# EAGLE library part MCP2515 (library CAN)
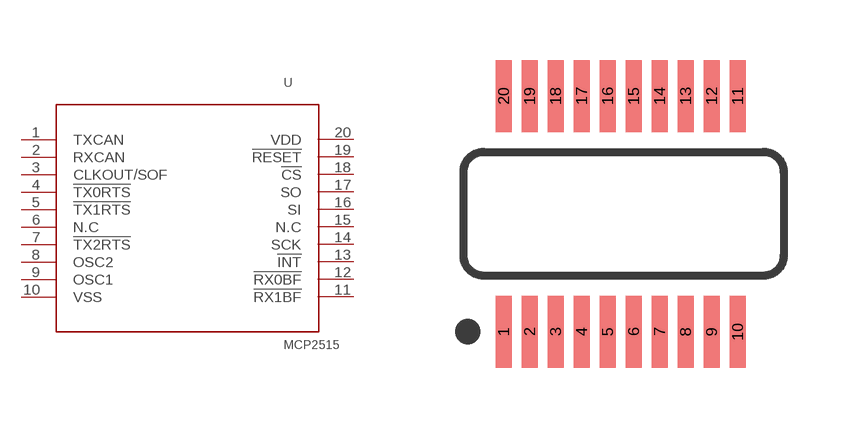
[diagram p5: symbol with the pads of TSSOP-20; footprint TSSOP-20]

Designator prefix U

## MCP2515  [TSSOP-20]
1  TXCAN
2  RXCAN
3  CLKOUT/SOF
4  !TX0RTS!
5  !TX1RTS!
6  N.C  nc
7  !TX2RTS!
8  OSC2
9  OSC1
10  VSS
11  !RX1BF!
12  !RX0BF!
13  !INT!
14  SCK
15  N.C  nc
16  SI
17  SO
18  !CS!
19  !RESET!
20  VDD

## Footprint TSSOP-20 (pad centres in mm)
smd 0.4 x 1.8: 1 0,0; 2 0.65,0; 3 1.3,0; 4 1.95,0; 5 2.6,0; 6 3.25,0; 7 3.9,0; 8 4.55,0; 9 5.2,0; 10 5.85,0; 11 5.85,5.9; 12 5.2,5.9; 13 4.55,5.9; 14 3.9,5.9; 15 3.25,5.9; 16 2.6,5.9; 17 1.95,5.9; 18 1.3,5.9; 19 0.65,5.9; 20 0,5.9